# Altium footprint library Micro_V2.PcbLib: 1 footprints
Each footprint in its own frame and in the unit in brackets; x right, y up, seen from the top. Pads: shape width x height; smd on the part's side, far side on the other; paste and mask are expansions set on the pad; w line width, h text height; cw(c..) or ccw(c..) is an arc to the next point about the centre after c.
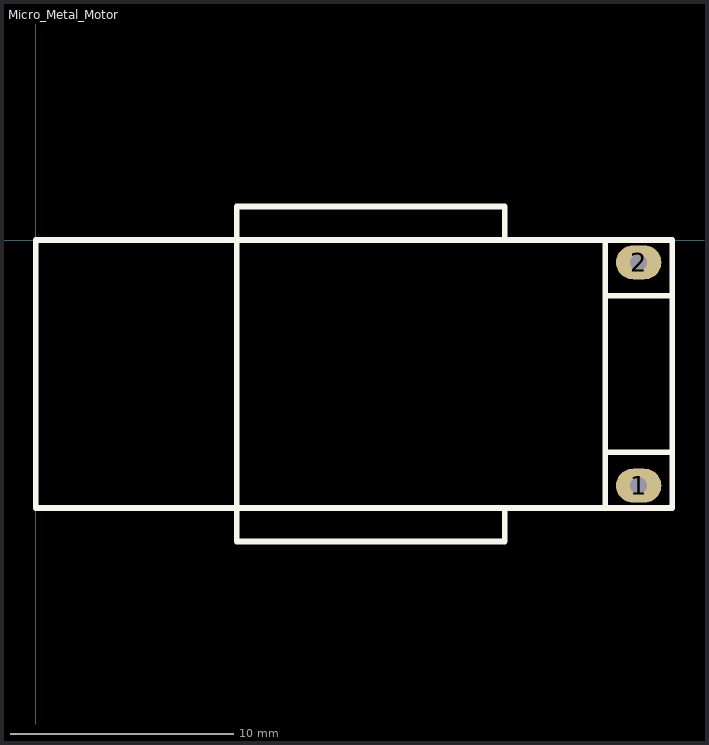
[diagram p0: the footprint, top view; thin cyan lines are the x and y axes]

## Micro_Metal_Motor [mil]
pads (2):
  oval 80x60 hole 30: 1(1062.99,-433.07) 2(1062.99,-39.37)
Top Overlay:
  lines w10: 826.77,-472.44 826.77,-531.5 354.33,-531.5 354.33,-472.44 ; 826.77,0 826.77,59.06 354.33,59.06 354.33,0 ; 1003.94,-374.02 1122.05,-374.02 1122.05,-98.43 1003.94,-98.43 ; 354.33,-472.44 354.33,0 ; 354.33,-472.44 0,-472.44 0,0 354.33,0 ; 354.33,-472.44 1003.94,-472.44 ; 354.33,0 1003.94,0 ; 1003.94,-472.44 1003.94,0 ; 1003.94,-472.44 1122.05,-472.44 1122.05,0 1003.94,0